# Altium footprint library discrete_semiconductors.PcbLib: 3 footprints
Each footprint in its own frame and in the unit in brackets; x right, y up, seen from the top. Pads: shape width x height; smd on the part's side, far side on the other; paste and mask are expansions set on the pad; w line width, h text height; cw(c..) or ccw(c..) is an arc to the next point about the centre after c.
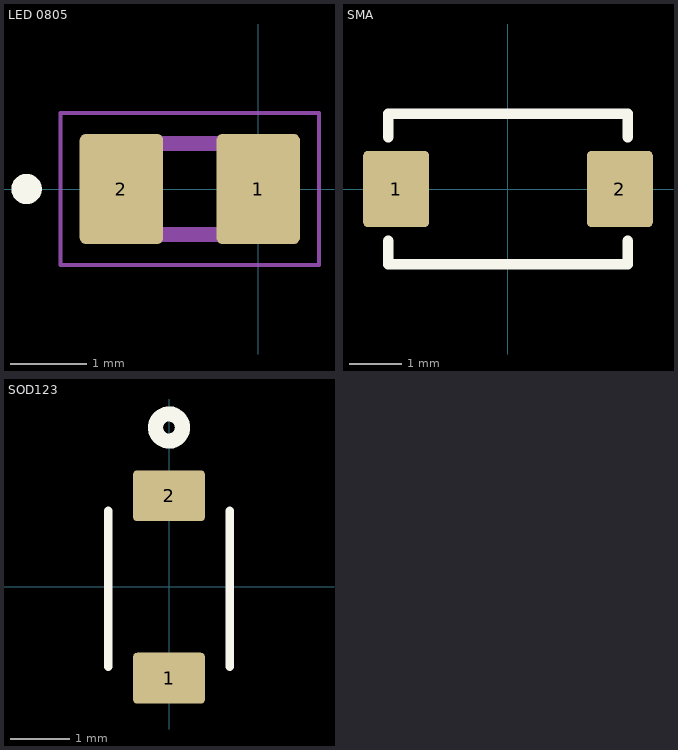
[diagram p0: the footprints below, top view; thin cyan lines are the x and y axes]

## LED 0805 [mm]
pads (2):
  rrect15% 1.1x1.45 smd paste-0.05: 1(0,0) 2(-1.8,0)
Top Overlay:
  circle w0.2: c-3.048,0 r0.1
Mechanical 4:
  region: -0.4,0.6 0.1,0.6 0.1,-0.6 -0.4,-0.6
  region: -1.9,0.6 -1.4,0.6 -1.4,-0.6 -1.9,-0.6
  region: -0.4,0.6 0.1,0.6 0.1,-0.6 -0.4,-0.6
  region: -1.9,0.6 -1.4,0.6 -1.4,-0.6 -1.9,-0.6
  lines w0.2: -1.9,-0.6 -1.9,0.6 ; -1.9,-0.6 0.1,-0.6 ; -1.9,-0.6 -1.9,0.6 ; -1.9,-0.6 0.1,-0.6 ; -1.9,0.6 0.1,0.6 ; -1.9,0.6 0.1,0.6 ; 0.1,-0.6 0.1,0.6 ; 0.1,-0.6 0.1,0.6
Mechanical 16:
  lines w0.05: -2.6,-1 -2.6,1 0.8,1 0.8,-1 -2.6,-1

## SMA [mm]
pads (2):
  rrect15% 1.27x1.47 smd: 1(-2.15,0) 2(2.15,0)
Top Overlay:
  lines w0.203: -2.3,-1 -2.3,-1.45 2.3,-1.45 2.3,-1 ; -2.3,1 -2.3,1.45 2.3,1.45 2.3,1

## SOD123 [mm]
pads (2):
  rrect15% 1.2x0.85 smd paste-0.05: 1(0,-1.525) 2(0,1.525)
Top Overlay:
  circle w0.254: c0,2.667 r0.226
  lines w0.15: -1.016,-1.33 -1.016,1.27 ; 1.016,-1.33 1.016,1.27